# EAGLE library part AD7193 (library 1dah)
4-ch 4.8 kHZ ultralow noise 24-bit sigma-delta ADC
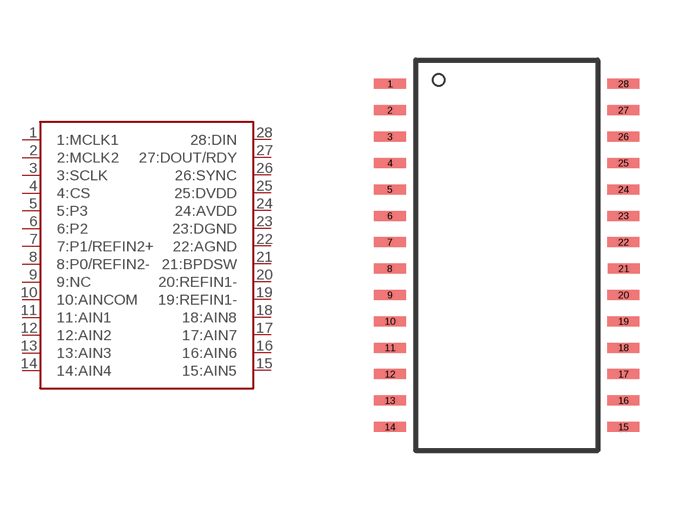
[diagram p32: symbol with the pads of TSSOP28; footprint TSSOP28]

Designator prefix -

## AD7193  [TSSOP28]
1  1:MCLK1
2  2:MCLK2
3  3:SCLK
4  4:CS
5  5:P3
6  6:P2
7  7:P1/REFIN2+
8  8:P0/REFIN2-
9  9:NC
10  10:AINCOM
11  11:AIN1
12  12:AIN2
13  13:AIN3
14  14:AIN4
15  15:AIN5
16  16:AIN6
17  17:AIN7
18  18:AIN8
19  19:REFIN1-
20  20:REFIN1-
21  21:BPDSW
22  22:AGND
23  23:DGND
24  24:AVDD
25  25:DVDD
26  26:SYNC
27  27:DOUT/RDY
28  28:DIN

## Footprint TSSOP28 (pad centres in mm)
smd 0.8 x 0.25: 1 -2.921,4.323; 2 -2.921,3.662; 3 -2.921,3.002; 4 -2.921,2.342; 5 -2.921,1.681; 6 -2.921,1.021; 7 -2.921,0.36; 8 -2.927,-0.3; 9 -2.921,-0.96; 10 -2.921,-1.621; 11 -2.921,-2.281; 12 -2.921,-2.942; 13 -2.921,-3.602; 14 -2.921,-4.262; 15 2.921,-4.262; 16 2.921,-3.602; 17 2.921,-2.942; 18 2.921,-2.281; 19 2.921,-1.621; 20 2.921,-0.96; 21 2.927,-0.3; 22 2.921,0.36; 23 2.921,1.021; 24 2.921,1.681; 25 2.921,2.342; 26 2.921,3.002; 27 2.921,3.662; 28 2.921,4.323